# EAGLE library part OMNETICS-NANO-25-RECEPTACLE (library bc-connectors)
OMNETICS 25 Position Nano-D Receptacle Mates with: Omnetics 25 Position Nano-D Plug Data Sheet: http://www.omnetics.com/products/bi-lobe-nano-d/dual-row-bi-lobe-nano-d#1828-tab2
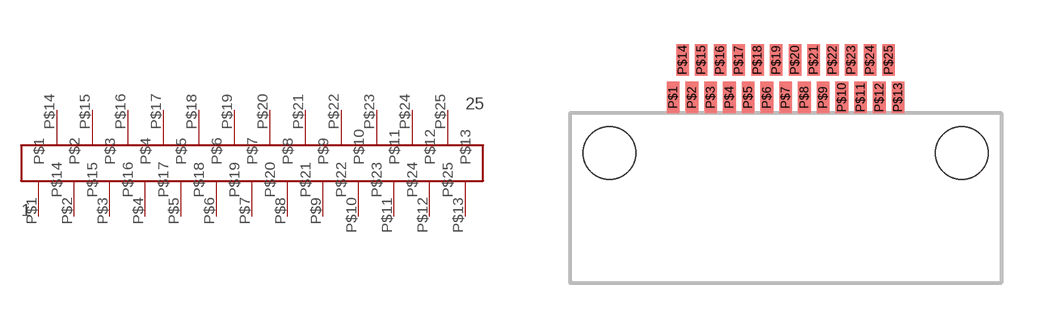
[diagram p2: symbol with the pads of OMNETICS-NANO-25-RECEPTACLE; footprint OMNETICS-NANO-25-RECEPTACLE]

Designator prefix -

## OMNETICS-NANO-25-RECEPTACLE  [OMNETICS-NANO-25-RECEPTACLE]
P$1  P$1
P$2  P$2
P$3  P$3
P$4  P$4
P$5  P$5
P$6  P$6
P$7  P$7
P$8  P$8
P$9  P$9
P$10  P$10
P$11  P$11
P$12  P$12
P$13  P$13
P$14  P$14
P$15  P$15
P$16  P$16
P$17  P$17
P$18  P$18
P$19  P$19
P$20  P$20
P$21  P$21
P$22  P$22
P$23  P$23
P$24  P$24
P$25  P$25

## Footprint OMNETICS-NANO-25-RECEPTACLE (pad centres in mm)
smd 0.43 x 1.07: P$1 -3.81,-0.635; P$2 -3.175,-0.635; P$3 -2.54,-0.635; P$4 -1.905,-0.635; P$5 -1.27,-0.635; P$6 -0.635,-0.635; P$7 0,-0.635; P$8 0.635,-0.635; P$9 1.27,-0.635; P$10 1.905,-0.635; P$11 2.54,-0.635; P$12 3.175,-0.635; P$13 3.81,-0.635; P$14 -3.493,0.635; P$15 -2.857,0.635; P$16 -2.223,0.635; P$17 -1.587,0.635; P$18 -0.953,0.635; P$19 -0.318,0.635; P$20 0.318,0.635; P$21 0.953,0.635; P$22 1.587,0.635; P$23 2.223,0.635; P$24 2.857,0.635; P$25 3.493,0.635
hole 1.78 at -5.97,-2.515
hole 1.78 at 5.97,-2.515